# Altium footprint library my.PcbLib: 38 footprints (part 3 of 3)
Each footprint in its own frame and in the unit in brackets; x right, y up, seen from the top. Pads: shape width x height; smd on the part's side, far side on the other; paste and mask are expansions set on the pad; w line width, h text height; cw(c..) or ccw(c..) is an arc to the next point about the centre after c.
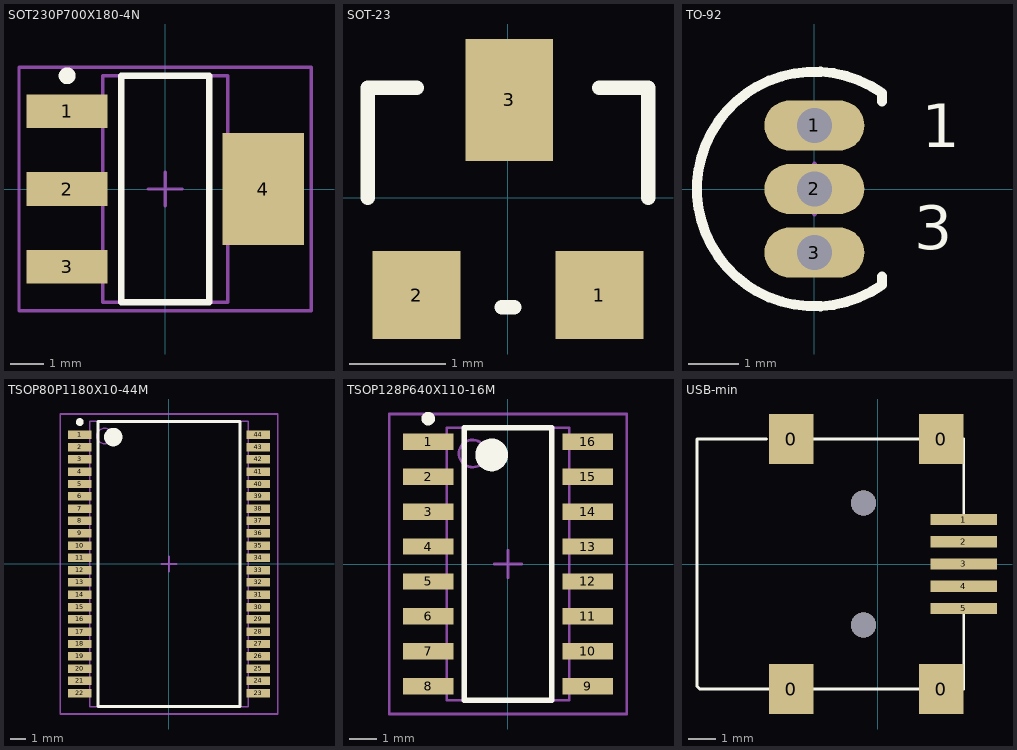
[diagram p2: the footprints below, top view; thin cyan lines are the x and y axes]

## SOT230P700X180-4N [mm] "SOT223, 4-Leads, Body 6.7x7.3mm (max), Pitch 2.30mm, IPC Medium Density"
height 1.8
pads (4):
  rect 2.4x1 smd: 1(-2.9,2.3) 2(-2.9,0) 3(-2.9,-2.3)
  rect 2.4x3.3 smd: 4(2.9,0)
Top Overlay:
  circle w0.25: c-2.9,3.35 r0.125
  lines w0.2: -1.3,-3.35 1.3,-3.35 1.3,3.35 -1.3,3.35 -1.3,-3.35
Mechanical 13:
  lines w0.1: -1.85,-3.35 1.85,-3.35 1.85,3.35 -1.85,3.35 -1.85,-3.35
Mechanical 15:
  lines w0.1: -0.5,0 0.5,0 ; 0,-0.5 0,0.5 ; -4.325,-3.6 4.325,-3.6 4.325,3.6 -4.325,3.6 -4.325,-3.6
3D body: height 1.8, standoff 0.02, extent -1.85,-3.35 1.85,3.35

## SOT-23 [mil]
pads (3):
  rect 36x36 smd: 1(37.5,-40) 2(-37.5,-40)
  rect 36x50 smd: 3(0.5,40)
Top Overlay:
  lines w6: -57.5,0 -57.5,45 -37.5,45 ; -2.5,-45 2.5,-45 ; 37.5,45 57.5,45 57.5,0

## TO-92 [mm] "TO, Flat Index; 3 In-Line, Axial Leads; Body Dia. 4.6mm; Leads 0.41 x 0.39 mm (max)"
height 4.7
pads (3):
  oval 2x1 hole 0.7: 1(0,1.27) 2(0,0) 3(0,-1.27)
Top Overlay:
  lines w0.2: 1.35,-1.75 1.35,-1.92 cw(c0,0) 1.35,1.92 1.35,1.75
  text "3" at 2,-1.49 h1.5
  text "1" at 2.15,0.54 h1.5
Mechanical 15:
  lines w0.1: -0.5,0 0.5,0 ; 0,-0.5 0,0.5

## TSOP80P1180X10-44M [mm] "TSOP, 44-Leads, Body 18.5x10.3mm (max), Pitch 0.80mm, IPC Low Density"
height 0.1
pads (44):
  rect 1.55x0.55 smd: 1(-5.8,8.4) 2(-5.8,7.6) 3(-5.8,6.8) 4(-5.8,6) 5(-5.8,5.2) 6(-5.8,4.4) 7(-5.8,3.6) 8(-5.8,2.8) 9(-5.8,2) 10(-5.8,1.2) 11(-5.8,0.4) 12(-5.8,-0.4) 13(-5.8,-1.2) 14(-5.8,-2) 15(-5.8,-2.8) 16(-5.8,-3.6) 17(-5.8,-4.4) 18(-5.8,-5.2) 19(-5.8,-6) 20(-5.8,-6.8) 21(-5.8,-7.6) 22(-5.8,-8.4) 23(5.8,-8.4) 24(5.8,-7.6) 25(5.8,-6.8) 26(5.8,-6) 27(5.8,-5.2) 28(5.8,-4.4) 29(5.8,-3.6) 30(5.8,-2.8) 31(5.8,-2) 32(5.8,-1.2) 33(5.8,-0.4) 34(5.8,0.4) 35(5.8,1.2) 36(5.8,2) 37(5.8,2.8) 38(5.8,3.6) 39(5.8,4.4) 40(5.8,5.2) 41(5.8,6) 42(5.8,6.8) 43(5.8,7.6) 44(5.8,8.4)
Top Overlay:
  circle w0.25: c-5.8,9.225 r0.125
  circle w0.6: c-3.625,8.25 r0.3
  lines w0.2: -4.625,-9.25 -4.625,9.25 4.625,9.25 4.625,-9.25 -4.625,-9.25
Mechanical 13:
  circle w0.1: c-4.195,8.32 r0.5
  lines w0.1: -5.145,-9.27 -5.145,9.27 5.145,9.27 5.145,-9.27 -5.145,-9.27
Mechanical 15:
  lines w0.1: -0.5,0 0.5,0 ; 0,-0.5 0,0.5 ; -7.075,-9.75 -7.075,9.75 7.075,9.75 7.075,-9.75 -7.075,-9.75
3D body: height 0.1, standoff 0.1, extent -5.145,-9.27 5.145,9.27

## TSOP128P640X110-16M [mm] "TSOP, 16-Leads, Body 10.0x4.5mm (max), Pitch 1.28mm, IPC Low Density"
height 1.1
pads (16):
  rect 1.85x0.6 smd: 1(-2.925,4.48) 2(-2.925,3.2) 3(-2.925,1.92) 4(-2.925,0.64) 5(-2.925,-0.64) 6(-2.925,-1.92) 7(-2.925,-3.2) 8(-2.925,-4.48) 9(2.925,-4.48) 10(2.925,-3.2) 11(2.925,-1.92) 12(2.925,-0.64) 13(2.925,0.64) 14(2.925,1.92) 15(2.925,3.2) 16(2.925,4.48)
Top Overlay:
  circle w0.6: c-0.6,4 r0.3
  circle w0.25: c-2.925,5.33 r0.125
  lines w0.2: -1.6,-5 1.6,-5 1.6,5 -1.6,5 -1.6,-5
Mechanical 13:
  circle w0.1: c-1.3,4.05 r0.5
  lines w0.1: -2.25,-5 2.25,-5 2.25,5 -2.25,5 -2.25,-5
Mechanical 15:
  lines w0.1: -0.5,0 0.5,0 ; 0,-0.5 0,0.5 ; -4.35,-5.5 4.35,-5.5 4.35,5.5 -4.35,5.5 -4.35,-5.5
3D body: height 1.1, standoff 0.15, extent -2.25,-5 2.25,5

## USB-min [mm]
pads (9):
  rect 1.6x1.8 smd: 0(-3.1,-4.5) 0(-3.1,4.5) 0(2.3,-4.5) 0(2.3,4.5)
  rect 2.4x0.4 smd: 1(3.1,1.6) 2(3.1,0.8) 3(3.1,0) 4(3.1,-0.8) 5(3.1,-1.6)
via -0.5,-2.2 diameter 0.9 hole 0.9
via -0.5,2.2 diameter 0.9 hole 0.9
Top Overlay:
  lines w0.1: -4,4.5 -6.5,4.5 -6.5,-4.4 -6.4,-4.5 -3.9,-4.5 ; -2.3,-4.5 1.5,-4.5 ; -2.3,4.5 1.5,4.5 ; 3.1,-4.5 3.1,-1.8 ; 3.1,1.8 3.1,4.5